# EAGLE library part MAX8722EEG (library maxim)
CCFL Backlight Controller
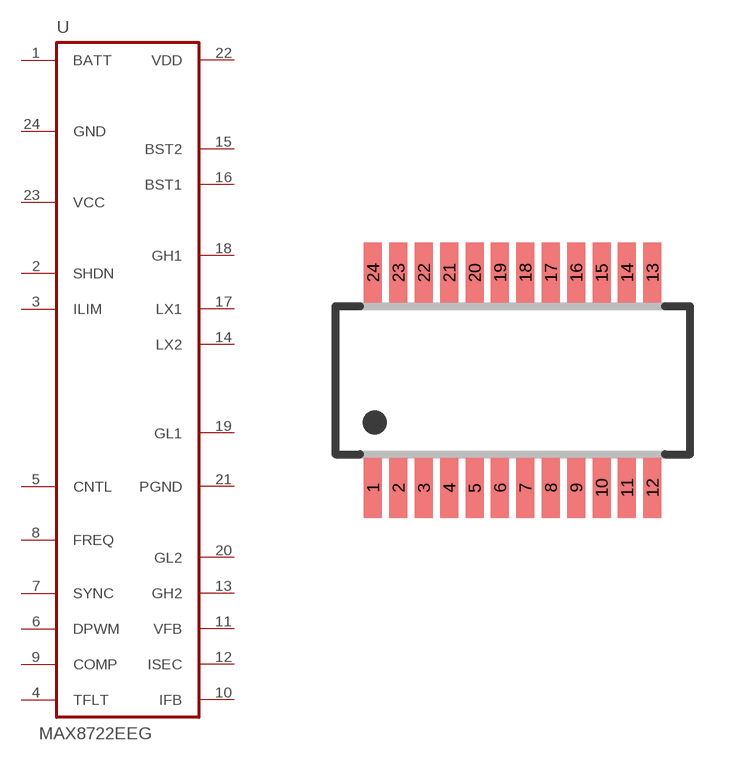
[diagram p396: symbol with the pads of QSOP24; footprint QSOP24]

Designator prefix U

## MAX8722EEG  [QSOP24]
1  BATT  pwr
2  SHDN  in
3  ILIM  pas
4  TFLT  pas
5  CNTL  in
6  DPWM
7  SYNC  in
8  FREQ  pas
9  COMP  out
10  IFB  in
11  VFB  in
12  ISEC  in
13  GH2  out
14  LX2  in
15  BST2  in
16  BST1  in
17  LX1  in
18  GH1  out
19  GL1  out
20  GL2  out
21  PGND  pwr
22  VDD  pwr
23  VCC  pwr
24  GND  pwr

## Footprint QSOP24 (pad centres in mm)
smd 0.45 x 1.5: 1 -3.493,-2.69; 2 -2.857,-2.69; 3 -2.223,-2.69; 4 -1.587,-2.69; 5 -0.953,-2.69; 6 -0.318,-2.69; 7 0.318,-2.69; 8 0.953,-2.69; 9 1.587,-2.69; 10 2.223,-2.69; 11 2.857,-2.69; 12 3.493,-2.69; 13 3.493,2.69; 14 2.857,2.69; 15 2.223,2.69; 16 1.587,2.69; 17 0.953,2.69; 18 0.318,2.69; 19 -0.318,2.69; 20 -0.953,2.69; 21 -1.587,2.69; 22 -2.223,2.69; 23 -2.857,2.69; 24 -3.493,2.69